# Altium footprint library CapBkp.PcbLib: 1 footprints
Each footprint in its own frame and in the unit in brackets; x right, y up, seen from the top. Pads: shape width x height; smd on the part's side, far side on the other; paste and mask are expansions set on the pad; w line width, h text height; cw(c..) or ccw(c..) is an arc to the next point about the centre after c.
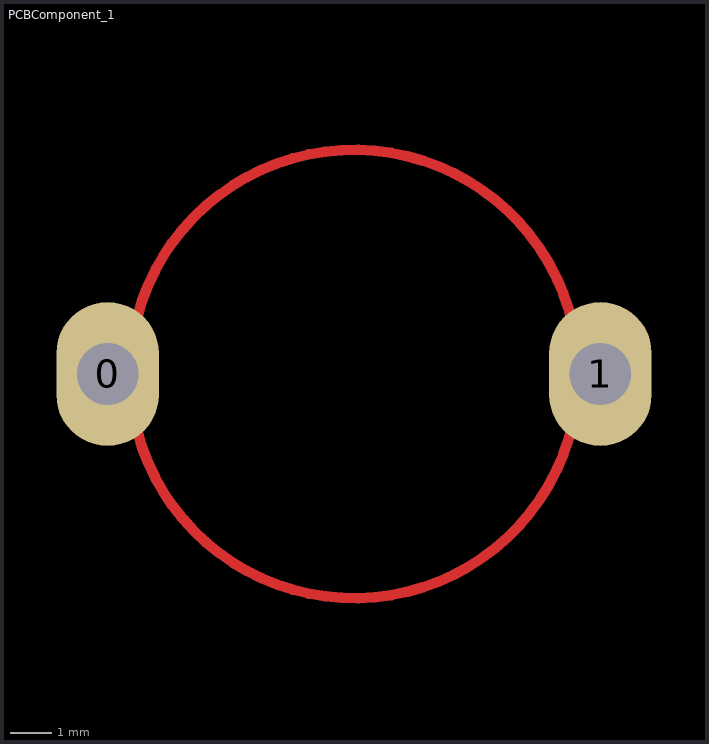
[diagram p0: the footprint, top view; thin cyan lines are the x and y axes]

## PCBComponent_1 [mm]
pads (2):
  oval 2.5x3.5 hole 1.5: 0(-1260,-1260) 1(-1248,-1260)
Top Layer:
  circle w0.254: c-1254,-1260 r5.461